# Altium schematic symbol library BargraphRG.SchLib: 1 symbol
Pins are listed as number, name and electrical type; pins without a type are passive.

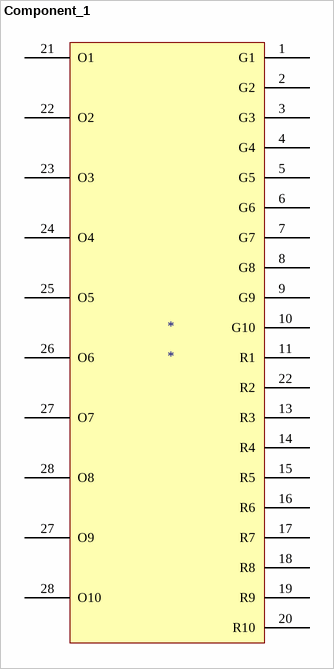
[diagram p0: symbol Component_1]

## Component_1
designator *
pins: 1 G1 (power), 2 G2 (power), 3 G3 (power), 4 G4 (power), 5 G5 (power), 6 G6 (power), 7 G7 (power), 8 G8 (power), 9 G9 (power), 10 G10 (power), 11 R1 (power), 13 R3 (power), 14 R4 (power), 15 R5 (power), 16 R6 (power), 17 R7 (power), 18 R8 (power), 19 R9 (power), 20 R10 (power), 21 O1 (power), 22 O2 (power), 22 R2 (power), 23 O3 (power), 24 O4 (power), 25 O5 (power), 26 O6 (power), 27 O7 (power), 27 O9 (power), 28 O8 (power), 28 O10 (power)